# EAGLE library part FPC-34WAY (library pimoroni-fpc)
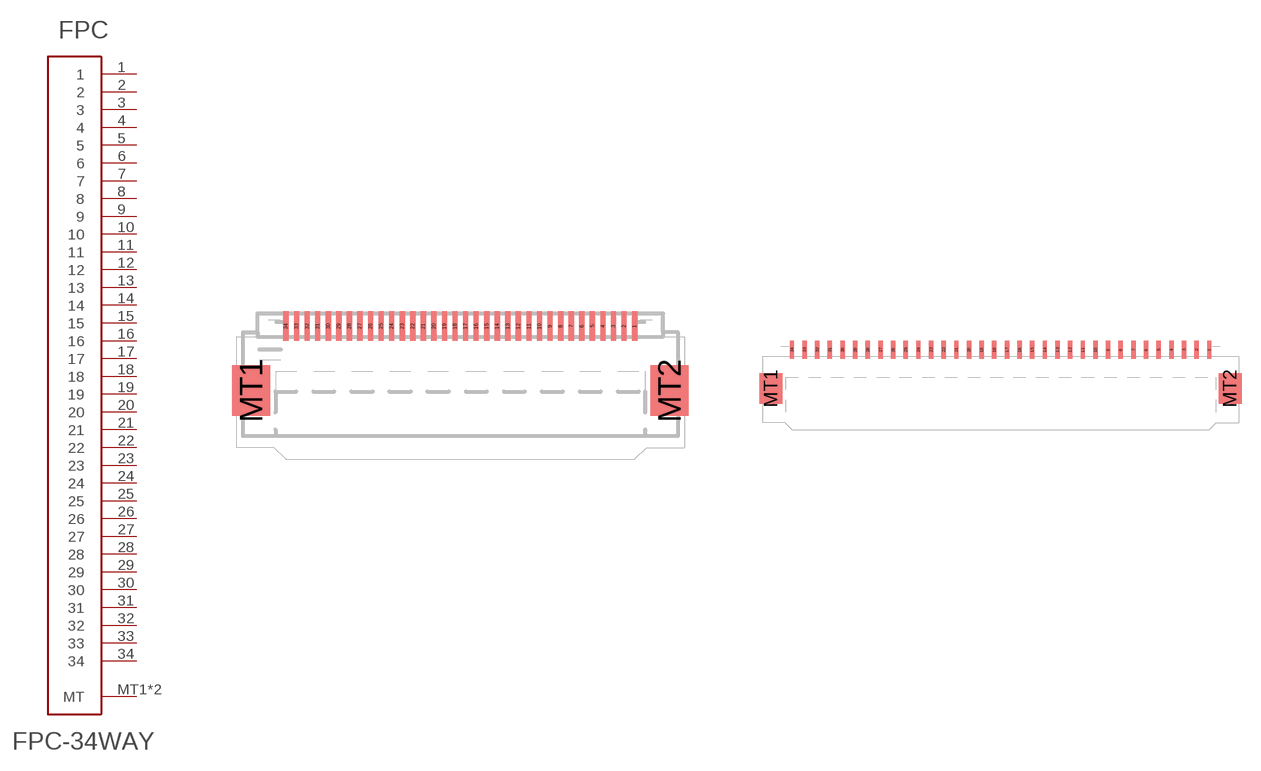
[diagram p29: symbol with the pads of FPC-0.5MM-34WAY; footprints FPC-0.5MM-34WAY, FPC-1.0MM-34WAY]

Designator prefix FPC

## FPC-34WAY0.5  [FPC-0.5MM-34WAY]
1  1
2  2
3  3
4  4
5  5
6  6
7  7
8  8
9  9
10  10
11  11
12  12
13  13
14  14
15  15
16  16
17  17
18  18
19  19
20  20
21  21
22  22
23  23
24  24
25  25
26  26
27  27
28  28
29  29
30  30
31  31
32  32
33  33
34  34
MT1  MT
MT2  MT

## FPC-34WAY1.0  [FPC-1.0MM-34WAY]
Pads as for FPC-0.5MM-34WAY

## Footprint FPC-0.5MM-34WAY (pad centres in mm)
smd 0.25 x 1.4: 1 8.25,0.7; 2 7.75,0.7; 3 7.25,0.7; 4 6.75,0.7; 5 6.25,0.7; 6 5.75,0.7; 7 5.25,0.7; 8 4.75,0.7; 9 4.25,0.7; 10 3.75,0.7; 11 3.25,0.7; 12 2.75,0.7; 13 2.25,0.7; 14 1.75,0.7; 15 1.25,0.7; 16 0.75,0.7; 17 0.25,0.7; 18 -0.25,0.7; 19 -0.75,0.7; 20 -1.25,0.7; 21 -1.75,0.7; 22 -2.25,0.7; 23 -2.75,0.7; 24 -3.25,0.7; 25 -3.75,0.7; 26 -4.25,0.7; 27 -4.75,0.7; 28 -5.25,0.7; 29 -5.75,0.7; 30 -6.25,0.7; 31 -6.75,0.7; 32 -7.25,0.7; 33 -7.75,0.7; 34 -8.25,0.7
smd 1.8 x 2.4: MT1 -9.9,-2.35; MT2 9.9,-2.35

## Footprint FPC-1.0MM-34WAY (pad centres in mm)
smd 0.35 x 1.4: 1 16.5,0.7; 2 15.5,0.7; 3 14.5,0.7; 4 13.5,0.7; 5 12.5,0.7; 6 11.5,0.7; 7 10.5,0.7; 8 9.5,0.7; 9 8.5,0.7; 10 7.5,0.7; 11 6.5,0.7; 12 5.5,0.7; 13 4.5,0.7; 14 3.5,0.7; 15 2.5,0.7; 16 1.5,0.7; 17 0.5,0.7; 18 -0.5,0.7; 19 -1.5,0.7; 20 -2.5,0.7; 21 -3.5,0.7; 22 -4.5,0.7; 23 -5.5,0.7; 24 -6.5,0.7; 25 -7.5,0.7; 26 -8.5,0.7; 27 -9.5,0.7; 28 -10.5,0.7; 29 -11.5,0.7; 30 -12.5,0.7; 31 -13.5,0.7; 32 -14.5,0.7; 33 -15.5,0.7; 34 -16.5,0.7
smd 1.8 x 2.4: MT1 -18.15,-2.35; MT2 18.15,-2.35